# Altium footprint library PcbLib1.PcbLib: 1 footprints
Each footprint in its own frame and in the unit in brackets; x right, y up, seen from the top. Pads: shape width x height; smd on the part's side, far side on the other; paste and mask are expansions set on the pad; w line width, h text height; cw(c..) or ccw(c..) is an arc to the next point about the centre after c.
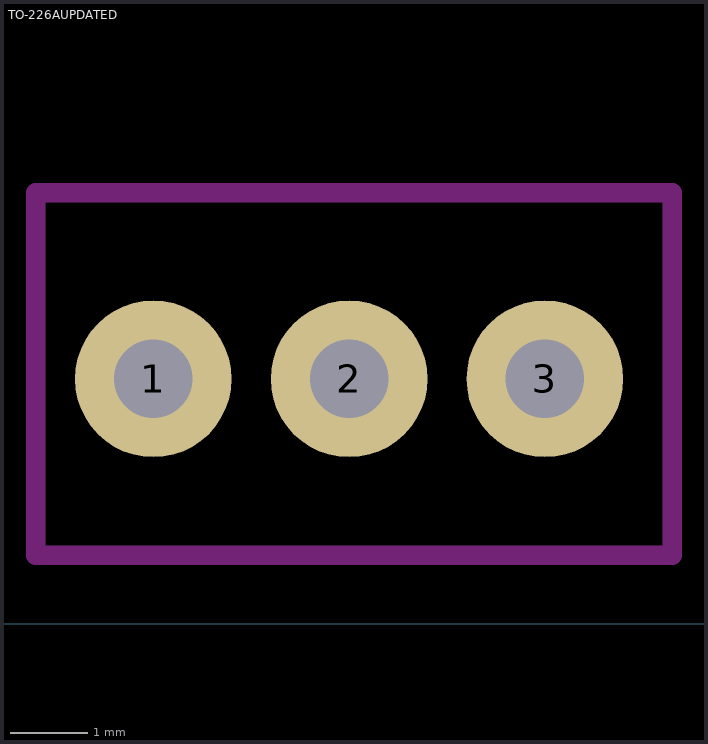
[diagram p0: the footprint, top view; thin cyan lines are the x and y axes]

## TO-226AUPDATED [mil]
pads (3):
  round 80 hole 40: 1(-300,125) 2(-200,125) 3(-100,125)
Top Layer keep-out:
  lines w10: -360,35 -360,220 -35,220 -35,35 -360,35